# Altium schematic symbol library Sensor.SchLib: 8 symbols
Pins are listed as number, name and electrical type; pins without a type are passive.

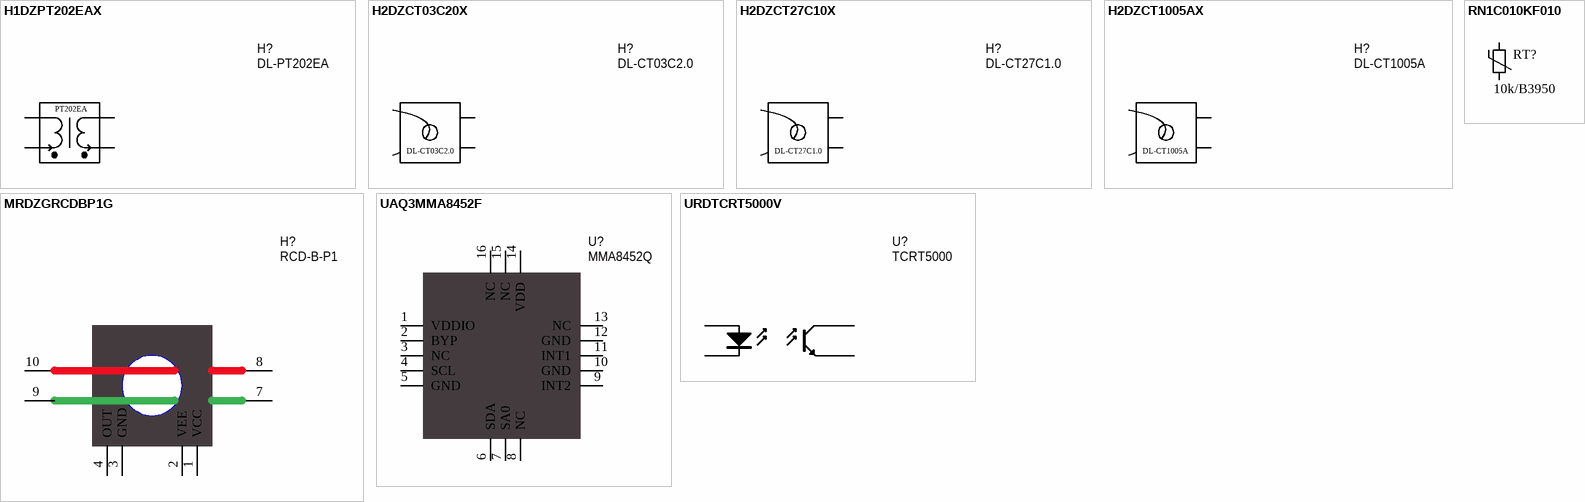
[diagram p0: symbols H1DZPT202EAX to URDTCRT5000V]

## H1DZPT202EAX
designator H?, comment DL-PT202EA
Voltage Transformer DL-PT202EA 2mA/2mA 0.1; Manufacturer: 南京向上电子科技有限公司; TemperatureRange: -35 to 70°C; MountType: DIP; PackageReference: DL-PT202EA; Published: 1-Jun-2017; Publisher: GreenBox; VenderID: DL-PT202EA
footprint DL-PT202EA
pins: 1, 2, 3, 4
2 alternate drawings of the same symbol
text: PT202EA

## H2DZCT03C20X
designator H?, comment DL-CT03C2.0
Current Transformer DL-CT03C2.0-5A/2.5mA 0~24A 0.1; Manufacturer: 南京向上电子科技有限公司; TemperatureRange: -40 to 70°C; MountType: DIP; PackageReference: DL-CT03C; Published: 1-Jun-2017; Publisher: GreenBox; VenderID: DL-CT03C2.0
footprint DL-CT03C
pins: 1, 2
2 alternate drawings of the same symbol

## H2DZCT27C10X
designator H?, comment DL-CT27C1.0
Current Transformer DL-CT27C1.0(20A/20mA) 0.2; Manufacturer: 南京向上电子科技有限公司; TemperatureRange: -40 to 70°C; MountType: DIP; PackageReference: DL-CT27C1.0; Published: 1-Jun-2017; Publisher: GreenBox; VenderID: DL-CT27C1.0
footprint DL-CT27C1.0
pins: 1, 2
2 alternate drawings of the same symbol

## H2DZCT1005AX
designator H?, comment DL-CT1005A
Current Transformer DL-CT1005A(10A/5mA) 0~50A 0.1; Manufacturer: 南京向上电子科技有限公司; TemperatureRange: -40 to 70°C; MountType: DIP; PackageReference: DL-CT1005A; Published: 1-Jun-2017; Publisher: GreenBox; VenderID: DL-CT1005A
footprint DL-CT1005A
pins: 1, 2
2 alternate drawings of the same symbol

## MRDZGRCDBP1G
designator H?, comment RCD-B-P1
RCD TypeB ±12V supply 100mA; Manufacturer: GREENBOX; TemperatureRange: -40 to 70°C; MountType: DIP; PackageReference: DL-CT1005A; Published: RCD-2; Publisher: GreenBox; VenderID: RCD-B-P1
footprint RCD-2
pins: 1 VCC, 2 VEE, 3 GND, 4 OUT, 7 HO, 8 VB, 9 VB, 10 VS
2 alternate drawings of the same symbol

## RN1C010KF010
designator RT?, comment value 10k/B3950  (hidden comment: NTC)
NTC 10K 1% 3950 0603; TemperatureRange: -55°C to 150°C; VenderID: NTC-0603-10k-B3950-1%; Published: 1-Jun-2017; Publisher: GreenBox; MountType: SMT; PackageReference: 0603; Manufacturer: *
simulation model RES (Resistor)
signal-integrity model Res
footprint 0603-R (0603, Body 1.6 x 0.8 mm (LxW typ))
pins: 1, 2

## UAQ3MMA8452F
designator U?, comment MMA8452Q
3-Axis Accelerometer MMA8452Q; Manufacturer: FREESCALE SEMICONDUCTOR; TemperatureRange: -40 to 85°C; MountType: SMT; PackageReference: QFN-16; Published: 1-Jun-2017; Publisher: GreenBox; VenderID: MMA8452Q
footprint PQFN50P300X300-16V (PQFN, 16-Leads, Body 3x3mm, Pitch 0.5mm, Freescale)
pins: 1 VDDIO, 2 BYP, 3 NC, 4 SCL, 5 GND, 6 SDA, 7 SA0, 8 NC, 9 INT2, 10 GND, 11 INT1, 12 GND, 13 NC, 14 VDD, 15 NC, 16 NC
2 alternate drawings of the same symbol

## URDTCRT5000V
designator U?, comment TCRT5000
Reflective Optical Sensor with Transistor Output TCRT5000; Manufacturer: VISHAY; TemperatureRange: -25 to 85°C; MountType: DIP; PackageReference: TCRT5000; Published: 1-Jun-2017; Publisher: GreenBox; VenderID: TCRT5000
footprint TCRT5000 (Footprint not found)
pins: 1 A "Anode", 2 K "Cathode", 3 E "Emitter", 4 C "Collector"
2 alternate drawings of the same symbol